# EAGLE library part CARD_EDGE_12 (library Clean-Kong)
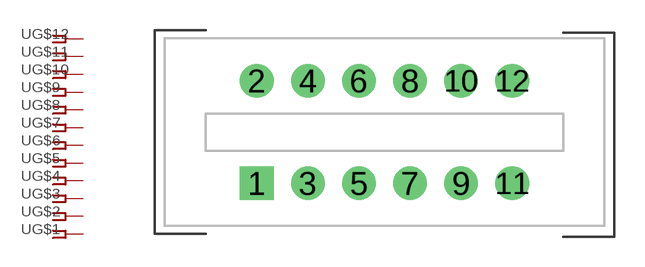
[diagram p14: symbol with the pads of CARD_EDGE_12; footprint CARD_EDGE_12]

Designator prefix -; gates G$1=FPINV G$2=FPINV G$3=FPINV G$4=FPINV G$5=FPINV G$6=FPINV G$7=FPINV G$8=FPINV G$9=FPINV G$10=FPINV G$11=FPINV G$12=FPINV

## CARD_EDGE_12  [CARD_EDGE_12]
1  G$1:1  pas
2  G$2:1  pas
3  G$3:1  pas
4  G$4:1  pas
5  G$5:1  pas
6  G$6:1  pas
7  G$7:1  pas
8  G$8:1  pas
9  G$9:1  pas
10  G$10:1  pas
11  G$11:1  pas
12  G$12:1  pas

## Footprint CARD_EDGE_12 (pad centres in mm)
drill 0.8 pad 1.676 square: 1 0,-0.013
drill 0.8 pad 1.676: 2 0,5.093; 3 2.54,-0.013; 4 2.54,5.093; 5 5.08,-0.013; 6 5.08,5.093; 7 7.62,-0.013; 8 7.62,5.093; 9 10.16,-0.013; 10 10.16,5.093; 11 12.7,-0.013; 12 12.7,5.093